# EAGLE library part IP101GA (library serial_interfaces)
Single Port 10/100 MII/RMII/TP/Fiber Fast Ethernet Transceiver Datasheet <https://datasheet.lcsc.com/szlcsc/IC-Plus-IP101GR_C79324.pdf>
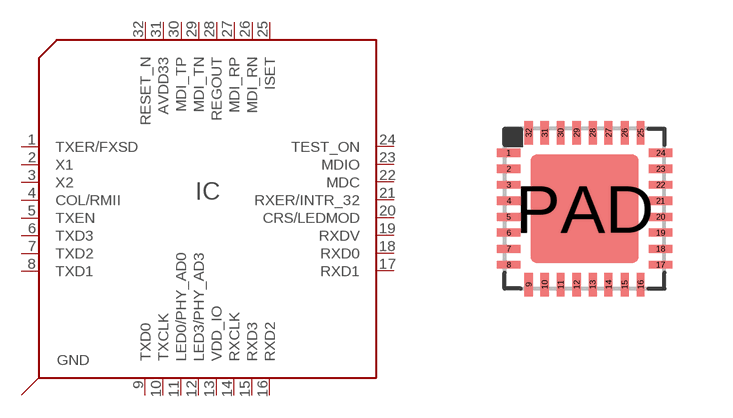
[diagram p21: symbol with the pads of QFN32(4X4); footprint QFN32(4X4)]

Designator prefix IC

## IP101GA-QFN32 (LCSC#: C703537; MANF: IC Plus; MANF#: IP101GRI)  [QFN32(4X4)]
1  TXER/FXSD
2  X1
3  X2
4  COL/RMII
5  TXEN
6  TXD3
7  TXD2
8  TXD1
9  TXD0
10  TXCLK
11  LED0/PHY_AD0
12  LED3/PHY_AD3
13  VDD_IO
14  RXCLK
15  RXD3
16  RXD2
17  RXD1
18  RXD0
19  RXDV
20  CRS/LEDMOD
21  RXER/INTR_32
22  MDC
23  MDIO
24  TEST_ON
25  ISET
26  MDI_RN
27  MDI_RP
28  REGOUT
29  MDI_TN
30  MDI_TP
31  AVDD33
32  RESET_N
PAD  GND

## Footprint QFN32(4X4) (pad centres in mm)
Drawing <https://www.renesas.com/us/en/document/psc/l324x4-32-lead-thin-quad-flat-no-lead-plastic-package>
smd 0.6 x 0.2: 1 -1.9,1.4; 2 -1.9,1; 3 -1.9,0.6; 4 -1.9,0.2; 5 -1.9,-0.2; 6 -1.9,-0.6; 7 -1.9,-1; 8 -1.9,-1.4; 17 1.9,-1.4; 18 1.9,-1; 19 1.9,-0.6; 20 1.9,-0.2; 21 1.9,0.2; 22 1.9,0.6; 23 1.9,1; 24 1.9,1.4
smd 0.2 x 0.6: 9 -1.4,-1.9; 10 -1,-1.9; 11 -0.6,-1.9; 12 -0.2,-1.9; 13 0.2,-1.9; 14 0.6,-1.9; 15 1,-1.9; 16 1.4,-1.9; 25 1.4,1.9; 26 1,1.9; 27 0.6,1.9; 28 0.2,1.9; 29 -0.2,1.9; 30 -0.6,1.9; 31 -1,1.9; 32 -1.4,1.9
smd 2.7 x 2.7: PAD 0,0